# EAGLE library part LORA1268F30 (library Main_board)
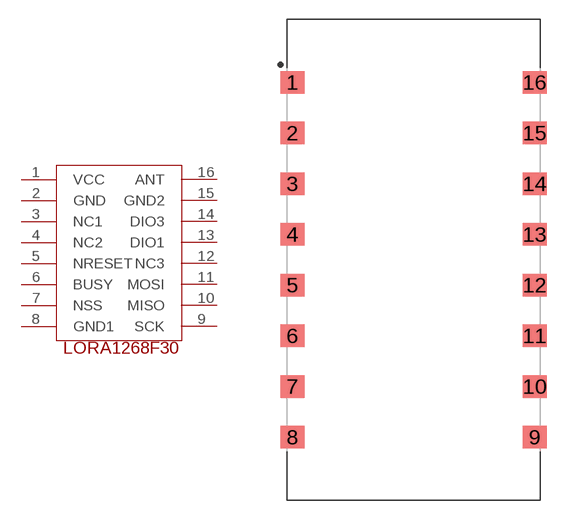
[diagram p0: symbol with the pads of LORA1268F30; footprint LORA1268F30]

Designator prefix -

## LORA1268F30  [LORA1268F30]
1  VCC
2  GND
3  NC1
4  NC2
5  NRESET
6  BUSY
7  NSS
8  GND1
9  SCK
10  MISO
11  MOSI
12  NC3
13  DIO1
14  DIO3
15  GND2
16  ANT

## Footprint LORA1268F30 (pad centres in mm)
16-Chiparray 2-Side Flat, 4.00 mm pitch, 38.00 X 20.00 X 4.00 mm body 16-pin Chiparray 2-Side Flat package with 4.00 mm pitch with body size 38.00 X 20.00 X 4.00 mm
smd 1.892 x 1.772: 1 -9.56,14; 2 -9.56,10; 3 -9.56,6; 4 -9.56,2; 5 -9.56,-2; 6 -9.56,-6; 7 -9.56,-10; 8 -9.56,-14; 9 9.56,-14; 10 9.56,-10; 11 9.56,-6; 12 9.56,-2; 13 9.56,2; 14 9.56,6; 15 9.56,10; 16 9.56,14